# Altium schematic symbol library captivate.SchLib: 1 symbol
Pins are listed as number, name and electrical type; pins without a type are passive.

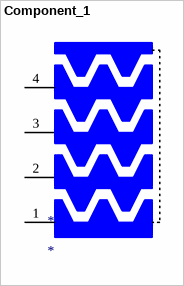
[diagram p0: symbol Component_1]

## Component_1
designator *
footprint SLIDER-4-38-13
pins: 1, 2, 3, 4